# Altium footprint library HOLE_.4mm_I.05P_OVAL.PcbLib: 11 footprints
Each footprint in its own frame and in the unit in brackets; x right, y up, seen from the top. Pads: shape width x height; smd on the part's side, far side on the other; paste and mask are expansions set on the pad; w line width, h text height; cw(c..) or ccw(c..) is an arc to the next point about the centre after c.
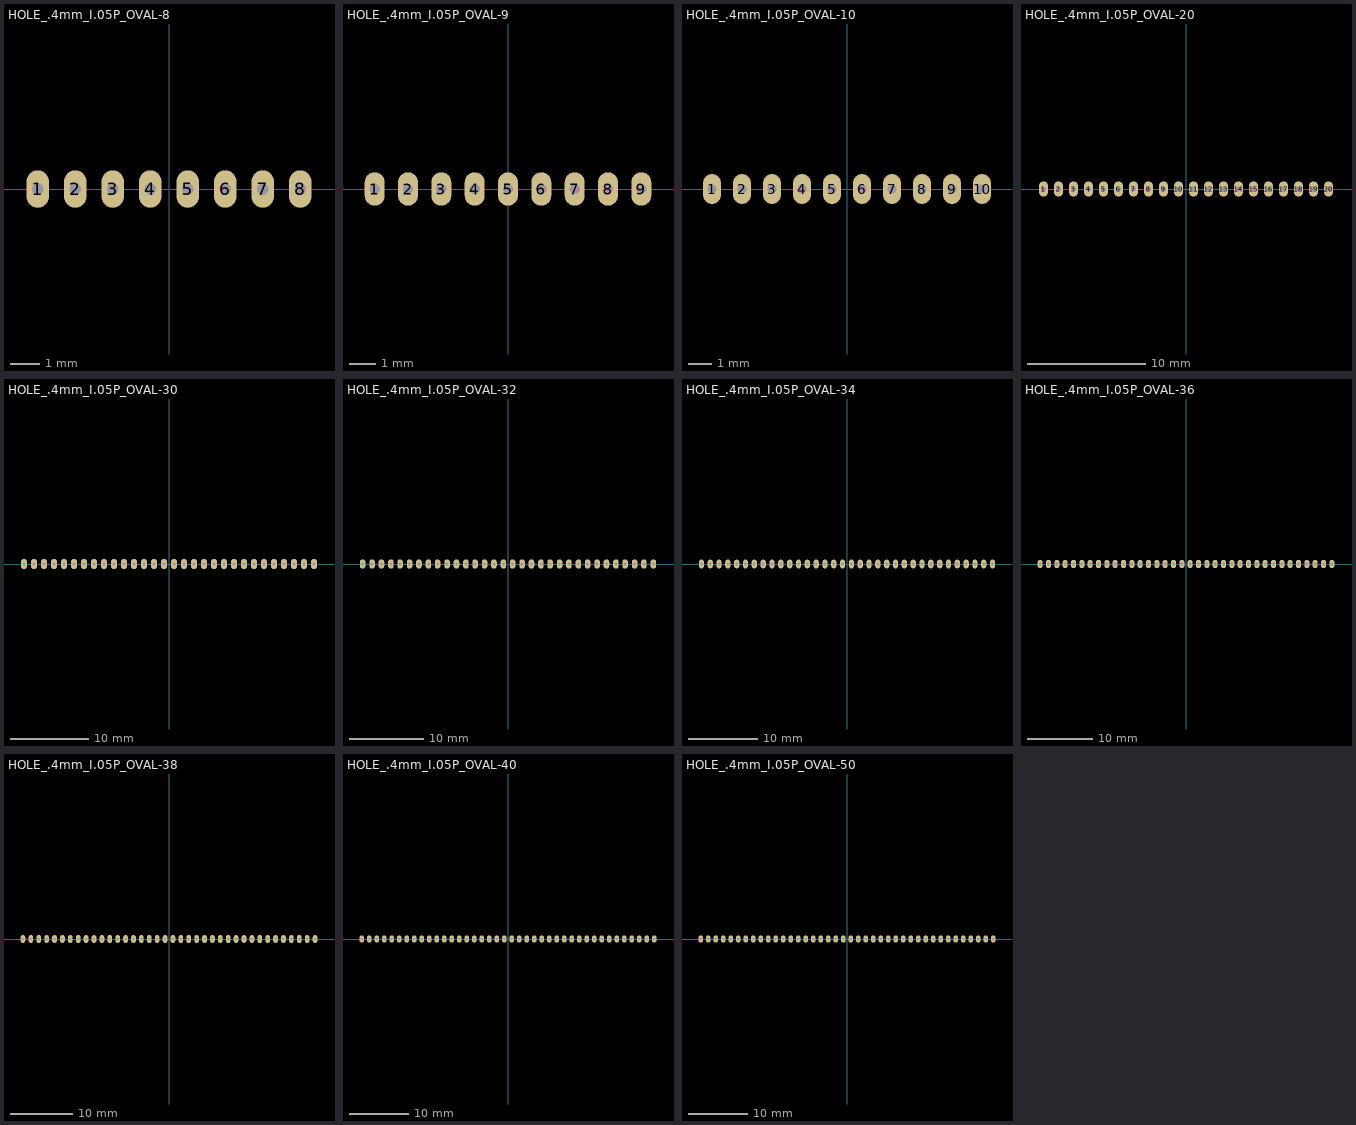
[diagram p0: the footprints below, top view; thin cyan lines are the x and y axes]

## HOLE_.4mm_I.05P_OVAL-8 [mil] "8 oval pads, 4mm hole, 50 mil pitch"
pads (8):
  oval 30x50 hole 15.75: 1(-175,0) 2(-125,0) 3(-75,0) 4(-25,0) 5(25,0) 6(75,0) 7(125,0) 8(175,0)

## HOLE_.4mm_I.05P_OVAL-9 [mil] "9 oval pads, 4mm hole, 50 mil pitch"
pads (9):
  oval 30x50 hole 15.75: 1(-200,0) 2(-150,0) 3(-100,0) 4(-50,0) 5(0,0) 6(50,0) 7(100,0) 8(150,0) 9(200,0)

## HOLE_.4mm_I.05P_OVAL-10 [mil] "10 oval pads, 4mm hole, 50 mil pitch"
pads (10):
  oval 30x50 hole 15.75: 1(-225,0) 2(-175,0) 3(-125,0) 4(-75,0) 5(-25,0) 6(25,0) 7(75,0) 8(125,0) 9(175,0) 10(225,0)

## HOLE_.4mm_I.05P_OVAL-20 [mil] "20 oval pads, 4mm hole, 50 mil pitch"
pads (20):
  oval 30x50 hole 15.75: 1(-475,0) 2(-425,0) 3(-375,0) 4(-325,0) 5(-275,0) 6(-225,0) 7(-175,0) 8(-125,0) 9(-75,0) 10(-25,0) 11(25,0) 12(75,0) 13(125,0) 14(175,0) 15(225,0) 16(275,0) 17(325,0) 18(375,0) 19(425,0) 20(475,0)

## HOLE_.4mm_I.05P_OVAL-30 [mil] "30 oval pads, 4mm hole, 50 mil pitch"
pads (30):
  oval 30x50 hole 15.75: 1(-725,0) 2(-675,0) 3(-625,0) 4(-575,0) 5(-525,0) 6(-475,0) 7(-425,0) 8(-375,0) 9(-325,0) 10(-275,0) 11(-225,0) 12(-175,0) 13(-125,0) 14(-75,0) 15(-25,0) 16(25,0) 17(75,0) 18(125,0) 19(175,0) 20(225,0) 21(275,0) 22(325,0) 23(375,0) 24(425,0) 25(475,0) 26(525,0) 27(575,0) 28(625,0) 29(675,0) 30(725,0)

## HOLE_.4mm_I.05P_OVAL-32 [mil] "32 oval pads, 4mm hole, 50 mil pitch"
pads (32):
  oval 30x50 hole 15.75: 1(-775,0) 2(-725,0) 3(-675,0) 4(-625,0) 5(-575,0) 6(-525,0) 7(-475,0) 8(-425,0) 9(-375,0) 10(-325,0) 11(-275,0) 12(-225,0) 13(-175,0) 14(-125,0) 15(-75,0) 16(-25,0) 17(25,0) 18(75,0) 19(125,0) 20(175,0) 21(225,0) 22(275,0) 23(325,0) 24(375,0) 25(425,0) 26(475,0) 27(525,0) 28(575,0) 29(625,0) 30(675,0) 31(725,0) 32(775,0)

## HOLE_.4mm_I.05P_OVAL-34 [mil] "34 oval pads, 4mm hole, 50 mil pitch"
pads (34):
  oval 30x50 hole 15.75: 1(-825,0) 2(-775,0) 3(-725,0) 4(-675,0) 5(-625,0) 6(-575,0) 7(-525,0) 8(-475,0) 9(-425,0) 10(-375,0) 11(-325,0) 12(-275,0) 13(-225,0) 14(-175,0) 15(-125,0) 16(-75,0) 17(-25,0) 18(25,0) 19(75,0) 20(125,0) 21(175,0) 22(225,0) 23(275,0) 24(325,0) 25(375,0) 26(425,0) 27(475,0) 28(525,0) 29(575,0) 30(625,0) 31(675,0) 32(725,0) 33(775,0) 34(825,0)

## HOLE_.4mm_I.05P_OVAL-36 [mil] "36 oval pads, 4mm hole, 50 mil pitch"
pads (36):
  oval 30x50 hole 15.75: 1(-875,0) 2(-825,0) 3(-775,0) 4(-725,0) 5(-675,0) 6(-625,0) 7(-575,0) 8(-525,0) 9(-475,0) 10(-425,0) 11(-375,0) 12(-325,0) 13(-275,0) 14(-225,0) 15(-175,0) 16(-125,0) 17(-75,0) 18(-25,0) 19(25,0) 20(75,0) 21(125,0) 22(175,0) 23(225,0) 24(275,0) 25(325,0) 26(375,0) 27(425,0) 28(475,0) 29(525,0) 30(575,0) 31(625,0) 32(675,0) 33(725,0) 34(775,0) 35(825,0) 36(875,0)

## HOLE_.4mm_I.05P_OVAL-38 [mil] "38 oval pads, 4mm hole, 50 mil pitch"
pads (38):
  oval 30x50 hole 15.75: 1(-925,0) 2(-875,0) 3(-825,0) 4(-775,0) 5(-725,0) 6(-675,0) 7(-625,0) 8(-575,0) 9(-525,0) 10(-475,0) 11(-425,0) 12(-375,0) 13(-325,0) 14(-275,0) 15(-225,0) 16(-175,0) 17(-125,0) 18(-75,0) 19(-25,0) 20(25,0) 21(75,0) 22(125,0) 23(175,0) 24(225,0) 25(275,0) 26(325,0) 27(375,0) 28(425,0) 29(475,0) 30(525,0) 31(575,0) 32(625,0) 33(675,0) 34(725,0) 35(775,0) 36(825,0) 37(875,0) 38(925,0)

## HOLE_.4mm_I.05P_OVAL-40 [mil] "40 oval pads, 4mm hole, 50 mil pitch"
pads (40):
  oval 30x50 hole 15.75: 1(-975,0) 2(-925,0) 3(-875,0) 4(-825,0) 5(-775,0) 6(-725,0) 7(-675,0) 8(-625,0) 9(-575,0) 10(-525,0) 11(-475,0) 12(-425,0) 13(-375,0) 14(-325,0) 15(-275,0) 16(-225,0) 17(-175,0) 18(-125,0) 19(-75,0) 20(-25,0) 21(25,0) 22(75,0) 23(125,0) 24(175,0) 25(225,0) 26(275,0) 27(325,0) 28(375,0) 29(425,0) 30(475,0) 31(525,0) 32(575,0) 33(625,0) 34(675,0) 35(725,0) 36(775,0) 37(825,0) 38(875,0) 39(925,0) 40(975,0)

## HOLE_.4mm_I.05P_OVAL-50 [mil] "50 oval pads, 4mm hole, 50 mil pitch"
pads (40):
  oval 30x50 hole 15.75: 1(-975,0) 2(-925,0) 3(-875,0) 4(-825,0) 5(-775,0) 6(-725,0) 7(-675,0) 8(-625,0) 9(-575,0) 10(-525,0) 11(-475,0) 12(-425,0) 13(-375,0) 14(-325,0) 15(-275,0) 16(-225,0) 17(-175,0) 18(-125,0) 19(-75,0) 20(-25,0) 21(25,0) 22(75,0) 23(125,0) 24(175,0) 25(225,0) 26(275,0) 27(325,0) 28(375,0) 29(425,0) 30(475,0) 31(525,0) 32(575,0) 33(625,0) 34(675,0) 35(725,0) 36(775,0) 37(825,0) 38(875,0) 39(925,0) 40(975,0)